# Altium schematic symbol library HT32.SchLib: 9 symbols
Pins are listed as number, name and electrical type; pins without a type are passive.

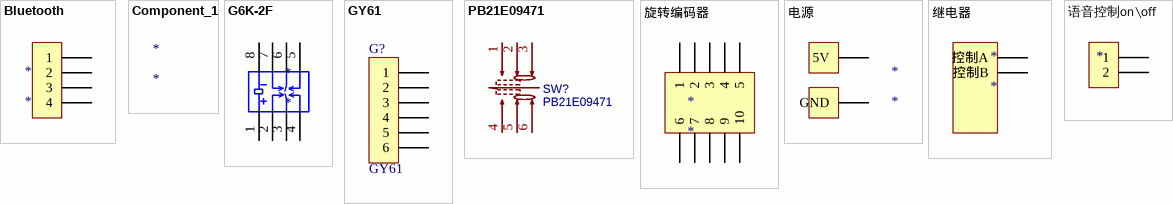
[diagram p0: symbols Bluetooth to 语音控制on\off]

## Bluetooth
designator *
pins: 1, 2 "1", 3 "1", 4 "1"

## Component_1
designator *

## G6K-2F
designator *
pins: 1, 2, 3, 4, 5, 6, 7, 8

## GY61
designator G?
footprint HDR1X6
pins: 1, 2 "1", 3 "1", 4 "1", 5 "1", 6 "1"

## PB21E09471
designator SW?
BOM_Manufacturer: GANGYUAN; Contributor: LCSC; BOM_Supplier: LCSC; BOM_Supplier Part: C194403; BOM_Manufacturer Part: PB21E09471; BOM_JLCPCB Part Class: Extended Part; spicePre: S; spiceSymbolName: PB21E09471
footprint SW-TH_6P-L8.5-W8.5-P2.50-LS5.5-BL
pins: 1, 2, 3, 4, 5, 6

## 旋转编码器
designator *
pins: 1, 2 "1", 3 "1", 4 "1", 5 "1", 6 "1", 7 "1", 8 "1", 9 "1", 10 "1"

## 电源
designator *
pins: 1 5V "1", 2 GND "1"

## 继电器
designator *
pins: 1 控制A "1", 2 控制B "1"

## 语音控制on\off
designator *
pins: 4 2 "1", ?1 1